# EAGLE library part 691309410003 (library Wuerth_Elektronik_eiCan_Terminal_Blocks_v2.0)
WR - TBL Serie 3094 - 7.62mm Reversed Gender Horizontal PCB Header , 3 pins
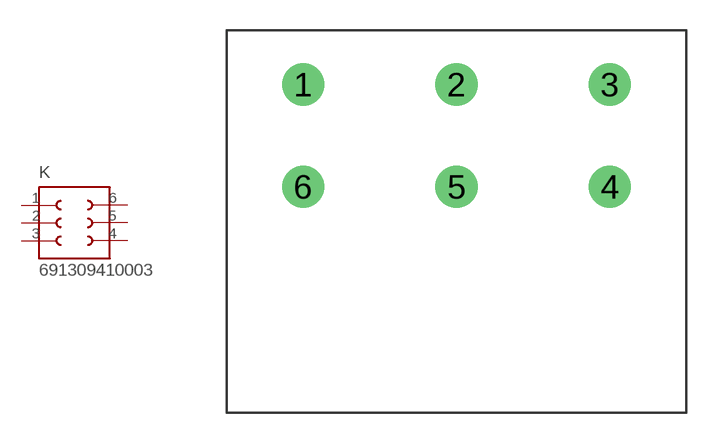
[diagram p200: symbol with the pads of 691309410003; footprint 691309410003]

Designator prefix K

## 691309410003  [691309410003]
1  1  pas
2  2  pas
3  3  pas
4  4  pas
5  5  pas
6  6  pas

## Footprint 691309410003 (pad centres in mm)
WR - TBL Serie 3094 - 7.62mm Reversed Gender Horizontal PCB Header , 3 pins
drill 1.4 round: 1 -15.24,0; 2 -7.62,0; 3 0,0; 4 0,-5.08; 5 -7.62,-5.08; 6 -15.24,-5.08